# Altium integrated library Capacitor - Aluminium TH.IntLib: 4591 symbols (part 17 of 68)
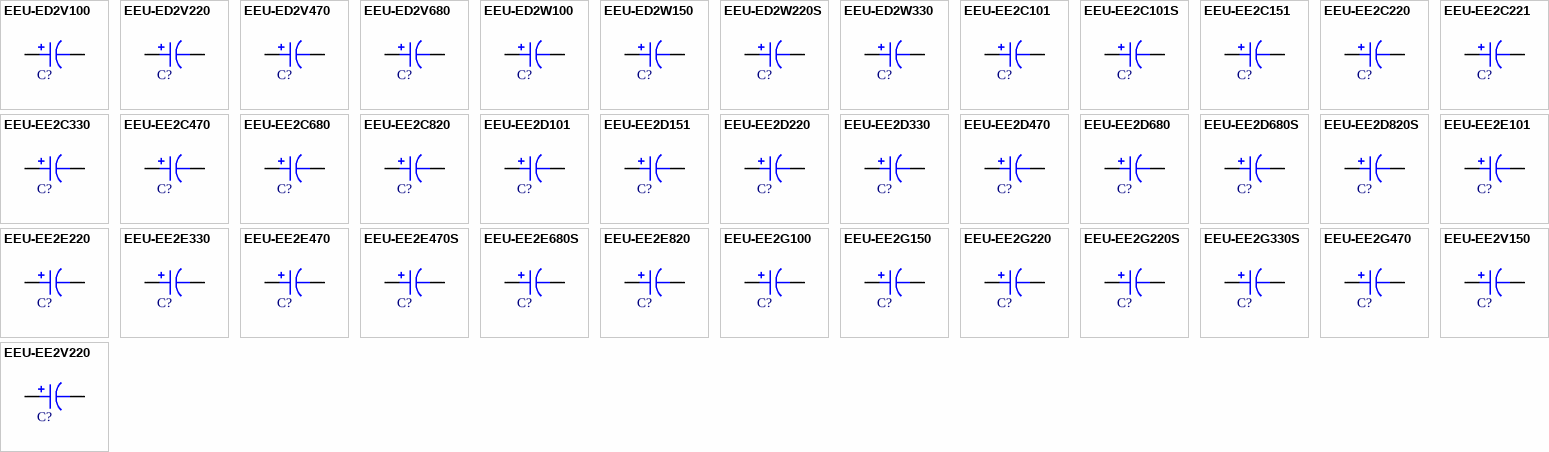
[diagram p130: symbols EEU-ED2V100 to EEU-EE2V220]

## EEU-EE2V220
designator C?, comment 22uF  (value not drawn)
CAP ALUM 22UF 20% 350V RADIAL; Part Number: EEU-EE2V220; Manufacturer: Panasonic Electronic Components; TemperatureRange: -25C ~ 105C; Type: Polar; Ripple Current: 231mA @ 120Hz; Value: 22uF; PartId: 23396; Supplier 1: Digi-Key; Supplier Part Number 1: P13652-ND; ComponentLink1Description: Datasheet; ComponentLink1URL: http://industrial.panasonic.com/www-cgi/jvcr13pz.cgi?E+PZ+3+ABA0113+EEUEE2V220+7+WW; ComponentLink2Description: Digi-Key Listing; ComponentLink2URL: https://www.digikey.com/product-detail/en/panasonic-electronic-components/EEU-EE2V220/P13652-ND/1245981; Tolerance: 20%; Voltage: 350V; Price: 0.96; Device Package: Radial, Can, 12.5mm
footprint CAP AL TH D12.5 L5 H22
pins: 1, 2

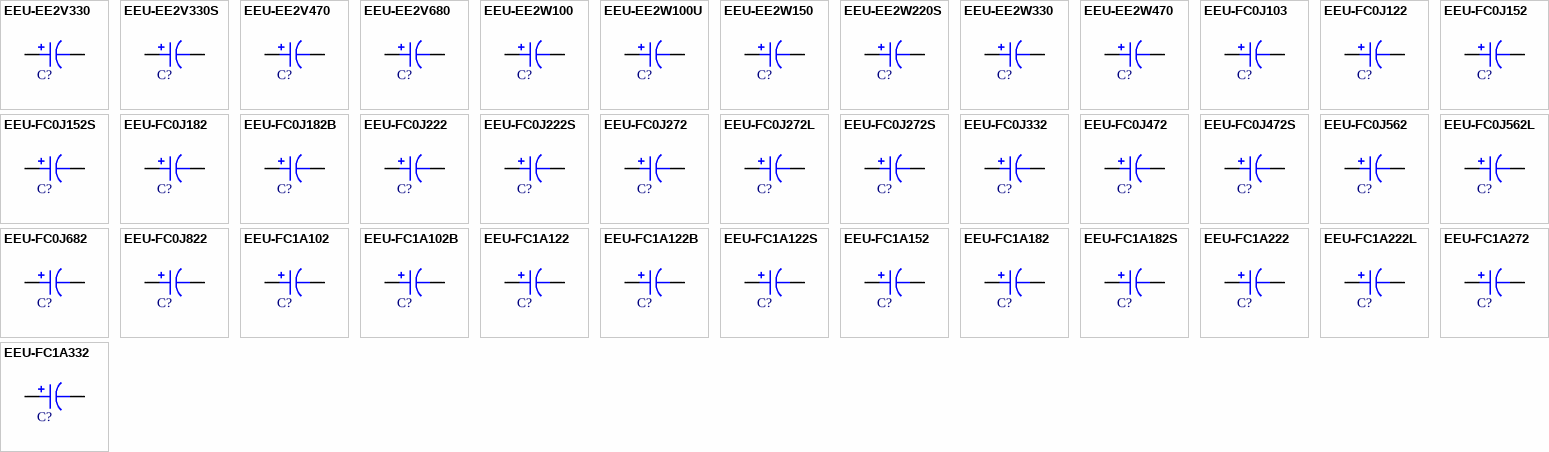
[diagram p27: symbols EEU-EE2V330 to EEU-FC1A332]

## EEU-EE2V330
designator C?, comment 33uF  (value not drawn)
CAP ALUM 33UF 20% 350V RADIAL; Part Number: EEU-EE2V330; Manufacturer: Panasonic Electronic Components; TemperatureRange: -25C ~ 105C; Type: Polar; Ripple Current: 276.5mA @ 120Hz; Value: 33uF; PartId: 24077; Supplier 1: Digi-Key; Supplier Part Number 1: P13653-ND; ComponentLink1Description: Datasheet; ComponentLink1URL: http://industrial.panasonic.com/www-cgi/jvcr13pz.cgi?E+PZ+3+ABA0113+EEUEE2V330+7+WW; ComponentLink2Description: Digi-Key Listing; ComponentLink2URL: https://www.digikey.com/product-detail/en/panasonic-electronic-components/EEU-EE2V330/P13653-ND/1245982; Tolerance: 20%; Voltage: 350V; Price: 1.21; Device Package: Radial, Can, 12.5mm
footprint CAP AL TH D12.5 L5 H27
pins: 1, 2

## EEU-EE2V330S
designator C?, comment 33uF  (value not drawn)
CAP ALUM 33UF 20% 350V RADIAL; Part Number: EEU-EE2V330S; Manufacturer: Panasonic Electronic Components; TemperatureRange: -25C ~ 105C; Type: Polar; Ripple Current: 315mA @ 120Hz; Value: 33uF; PartId: 26460; Supplier 1: Digi-Key; Supplier Part Number 1: P13654-ND; ComponentLink1Description: Datasheet; ComponentLink1URL: http://industrial.panasonic.com/www-cgi/jvcr13pz.cgi?E+PZ+3+ABA0113+EEUEE2V330S+7+WW; ComponentLink2Description: Digi-Key Listing; ComponentLink2URL: https://www.digikey.com/product-detail/en/panasonic-electronic-components/EEU-EE2V330S/P13654-ND/1245983; Tolerance: 20%; Voltage: 350V; Price: 1.54; Device Package: Radial, Can, 16mm
footprint CAP AL TH D16 L7.5 H22
pins: 1, 2

## EEU-EE2V470
designator C?, comment 47uF  (value not drawn)
CAP ALUM 47UF 20% 350V RADIAL; Part Number: EEU-EE2V470; Manufacturer: Panasonic Electronic Components; TemperatureRange: -25C ~ 105C; Type: Polar; Ripple Current: 374.5mA @ 120Hz; Value: 47uF; PartId: 26927; Supplier 1: Digi-Key; Supplier Part Number 1: P13655-ND; ComponentLink1Description: Datasheet; ComponentLink1URL: http://industrial.panasonic.com/www-cgi/jvcr13pz.cgi?E+PZ+3+ABA0113+EEUEE2V470+7+WW; ComponentLink2Description: Digi-Key Listing; ComponentLink2URL: https://www.digikey.com/product-detail/en/panasonic-electronic-components/EEU-EE2V470/P13655-ND/1245984; Tolerance: 20%; Voltage: 350V; Price: 1.76; Device Package: Radial, Can, 16mm
footprint CAP AL TH D16 L7.5 H27
pins: 1, 2

## EEU-EE2V680
designator C?, comment 68uF  (value not drawn)
CAP ALUM 68UF 20% 350V RADIAL; Part Number: EEU-EE2V680; Manufacturer: Panasonic Electronic Components; TemperatureRange: -25C ~ 105C; Type: Polar; Ripple Current: 535.5mA @ 120Hz; Value: 68uF; PartId: 27195; Supplier 1: Digi-Key; Supplier Part Number 1: P13657-ND; ComponentLink1Description: Datasheet; ComponentLink1URL: http://industrial.panasonic.com/www-cgi/jvcr13pz.cgi?E+PZ+3+ABA0113+EEUEE2V680+7+WW; ComponentLink2Description: Digi-Key Listing; ComponentLink2URL: https://www.digikey.com/product-detail/en/panasonic-electronic-components/EEU-EE2V680/P13657-ND/1245986; Tolerance: 20%; Voltage: 350V; Price: 2.06; Device Package: Radial, Can, 16mm
footprint CAP AL TH D16 L7.5 H33.5
pins: 1, 2

## EEU-EE2W100
designator C?, comment 10uF  (value not drawn)
CAP ALUM 10UF 20% 450V RADIAL; Part Number: EEU-EE2W100; Manufacturer: Panasonic Electronic Components; TemperatureRange: -25C ~ 105C; Type: Polar; Ripple Current: 171.5mA @ 120Hz; Value: 10uF; PartId: 23392; Supplier 1: Digi-Key; Supplier Part Number 1: P13672-ND; ComponentLink1Description: Datasheet; ComponentLink1URL: http://industrial.panasonic.com/www-cgi/jvcr13pz.cgi?E+PZ+3+ABA0113+EEUEE2W100+7+WW; ComponentLink2Description: Digi-Key Listing; ComponentLink2URL: https://www.digikey.com/product-detail/en/panasonic-electronic-components/EEU-EE2W100/P13672-ND/1246001; Tolerance: 20%; Voltage: 450V; Price: 0.96; Device Package: Radial, Can, 12.5mm
footprint CAP AL TH D12.5 L5 H22
pins: 1, 2

## EEU-EE2W100U
designator C?, comment 10uF  (value not drawn)
CAP ALUM 10UF 20% 450V RADIAL; Part Number: EEU-EE2W100U; Manufacturer: Panasonic Electronic Components; TemperatureRange: -25C ~ 105C; Type: Polar; Ripple Current: 115.5mA @ 120Hz; Value: 10uF; PartId: 25947; Supplier 1: Digi-Key; Supplier Part Number 1: P13671-ND; ComponentLink1Description: Datasheet; ComponentLink1URL: http://industrial.panasonic.com/www-cgi/jvcr13pz.cgi?E+PZ+3+ABA0113+EEUEE2W100U+7+WW; ComponentLink2Description: Digi-Key Listing; ComponentLink2URL: https://www.digikey.com/product-detail/en/panasonic-electronic-components/EEU-EE2W100U/P13671-ND/1246000; Tolerance: 20%; Voltage: 450V; Price: 0.76; Device Package: Radial, Can, 10mm
footprint CAP AL TH D10 L5 H22
pins: 1, 2

## EEU-EE2W150
designator C?, comment 15uF  (value not drawn)
CAP ALUM 15UF 20% 450V RADIAL; Part Number: EEU-EE2W150; Manufacturer: Panasonic Electronic Components; TemperatureRange: -25C ~ 105C; Type: Polar; Ripple Current: 273mA @ 120Hz; Value: 15uF; PartId: 24074; Supplier 1: Digi-Key; Supplier Part Number 1: P13673-ND; ComponentLink1Description: Datasheet; ComponentLink1URL: http://industrial.panasonic.com/www-cgi/jvcr13pz.cgi?E+PZ+3+ABA0113+EEUEE2W150+7+WW; ComponentLink2Description: Digi-Key Listing; ComponentLink2URL: https://www.digikey.com/product-detail/en/panasonic-electronic-components/EEU-EE2W150/P13673-ND/1246002; Tolerance: 20%; Voltage: 450V; Price: 1.21; Device Package: Radial, Can, 12.5mm
footprint CAP AL TH D12.5 L5 H27
pins: 1, 2

## EEU-EE2W220S
designator C?, comment 22uF  (value not drawn)
CAP ALUM 22UF 20% 450V RADIAL; Part Number: EEU-EE2W220S; Manufacturer: Panasonic Electronic Components; TemperatureRange: -25C ~ 105C; Type: Polar; Ripple Current: 330.8mA @ 120Hz; Value: 22uF; PartId: 26455; Supplier 1: Digi-Key; Supplier Part Number 1: P13674-ND; ComponentLink1Description: Datasheet; ComponentLink1URL: http://industrial.panasonic.com/www-cgi/jvcr13pz.cgi?E+PZ+3+ABA0113+EEUEE2W220S+7+WW; ComponentLink2Description: Digi-Key Listing; ComponentLink2URL: https://www.digikey.com/product-detail/en/panasonic-electronic-components/EEU-EE2W220S/P13674-ND/1246003; Tolerance: 20%; Voltage: 450V; Price: 1.54; Device Package: Radial, Can, 16mm
footprint CAP AL TH D16 L7.5 H22
pins: 1, 2

## EEU-EE2W330
designator C?, comment 33uF  (value not drawn)
CAP ALUM 33UF 20% 450V RADIAL; Part Number: EEU-EE2W330; Manufacturer: Panasonic Electronic Components; TemperatureRange: -25C ~ 105C; Type: Polar; Ripple Current: 350mA @ 120Hz; Value: 33uF; PartId: 26940; Supplier 1: Digi-Key; Supplier Part Number 1: P13675-ND; ComponentLink1Description: Datasheet; ComponentLink1URL: http://industrial.panasonic.com/www-cgi/jvcr13pz.cgi?E+PZ+3+ABA0113+EEUEE2W330+7+WW; ComponentLink2Description: Digi-Key Listing; ComponentLink2URL: https://www.digikey.com/product-detail/en/panasonic-electronic-components/EEU-EE2W330/P13675-ND/1246004; Tolerance: 20%; Voltage: 450V; Price: 1.86; Device Package: Radial, Can, 16mm
footprint CAP AL TH D16 L7.5 H27
pins: 1, 2

## EEU-EE2W470
designator C?, comment 47uF  (value not drawn)
CAP ALUM 47UF 20% 450V RADIAL; Part Number: EEU-EE2W470; Manufacturer: Panasonic Electronic Components; TemperatureRange: -25C ~ 105C; Type: Polar; Ripple Current: 420mA @ 120Hz; Value: 47uF; PartId: 27191; Supplier 1: Digi-Key; Supplier Part Number 1: P13677-ND; ComponentLink1Description: Datasheet; ComponentLink1URL: http://industrial.panasonic.com/www-cgi/jvcr13pz.cgi?E+PZ+3+ABA0113+EEUEE2W470+7+WW; ComponentLink2Description: Digi-Key Listing; ComponentLink2URL: https://www.digikey.com/product-detail/en/panasonic-electronic-components/EEU-EE2W470/P13677-ND/1246006; Tolerance: 20%; Voltage: 450V; Price: 2.04; Device Package: Radial, Can, 16mm
footprint CAP AL TH D16 L7.5 H33.5
pins: 1, 2

## EEU-FC0J103
designator C?, comment 10000uF  (value not drawn)
CAP ALUM 10000UF 20% 6.3V RADIAL; Part Number: EEU-FC0J103; Manufacturer: Panasonic Electronic Components; TemperatureRange: -55C ~ 105C; Type: Polar; Ripple Current: 2.678A @ 120Hz; Impedance: 16 mOhm; Value: 10000uF; PartId: 27365; Supplier 1: Digi-Key; Supplier Part Number 1: P10215-ND; ComponentLink1Description: Datasheet; ComponentLink1URL: http://industrial.panasonic.com/www-cgi/jvcr13pz.cgi?E+PZ+3+ABA0022+EEUFC0J103+7+WW; ComponentLink2Description: Digi-Key Listing; ComponentLink2URL: https://www.digikey.com/product-detail/en/panasonic-electronic-components/EEU-FC0J103/P10215-ND/266225; Tolerance: 20%; Voltage: 6.3V; Price: 1.79; Device Package: Radial, Can, 16mm
footprint CAP AL TH D16 L7.5 H37
pins: 1, 2

## EEU-FC0J122
designator C?, comment 1200uF  (value not drawn)
CAP ALUM 1200UF 20% 6.3V RADIAL; Part Number: EEU-FC0J122; Manufacturer: Panasonic Electronic Components; TemperatureRange: -55C ~ 105C; Type: Polar; Ripple Current: 840mA @ 120Hz; Impedance: 68 mOhm; Value: 1200uF; PartId: 25331; Supplier 1: Digi-Key; Supplier Part Number 1: P10201-ND; ComponentLink1Description: Datasheet; ComponentLink1URL: http://industrial.panasonic.com/www-cgi/jvcr13pz.cgi?E+PZ+3+ABA0022+EEUFC0J122+7+WW; ComponentLink2Description: Digi-Key Listing; ComponentLink2URL: https://www.digikey.com/product-detail/en/panasonic-electronic-components/EEU-FC0J122/P10201-ND/266211; Tolerance: 20%; Voltage: 6.3V; Price: 0.67; Device Package: Radial, Can, 10mm
footprint CAP AL TH D10 L5 H17.5
pins: 1, 2

## EEU-FC0J152
designator C?, comment 1500uF  (value not drawn)
CAP ALUM 1500UF 20% 6.3V RADIAL; Part Number: EEU-FC0J152; Manufacturer: Panasonic Electronic Components; TemperatureRange: -55C ~ 105C; Type: Polar; Ripple Current: 976mA @ 120Hz; Impedance: 52 mOhm; Value: 1500uF; PartId: 25577; Supplier 1: Digi-Key; Supplier Part Number 1: P10202-ND; ComponentLink1Description: Datasheet; ComponentLink1URL: http://industrial.panasonic.com/www-cgi/jvcr13pz.cgi?E+PZ+3+ABA0022+EEUFC0J152+7+WW; ComponentLink2Description: Digi-Key Listing; ComponentLink2URL: https://www.digikey.com/product-detail/en/panasonic-electronic-components/EEU-FC0J152/P10202-ND/266212; Tolerance: 20%; Voltage: 6.3V; Price: 0.66; Device Package: Radial, Can, 10mm
footprint CAP AL TH D10 L5 H22
pins: 1, 2

## EEU-FC0J152S
designator C?, comment 1500uF  (value not drawn)
CAP ALUM 1500UF 20% 6.3V RADIAL; Part Number: EEU-FC0J152S; Manufacturer: Panasonic Electronic Components; TemperatureRange: -55C ~ 105C; Type: Polar; Ripple Current: 964mA @ 120Hz; Impedance: 65 mOhm; Value: 1500uF; PartId: 22723; Supplier 1: Digi-Key; Supplier Part Number 1: P10203-ND; ComponentLink1Description: Datasheet; ComponentLink1URL: http://industrial.panasonic.com/www-cgi/jvcr13pz.cgi?E+PZ+3+ABA0022+EEUFC0J152S+7+WW; ComponentLink2Description: Digi-Key Listing; ComponentLink2URL: https://www.digikey.com/product-detail/en/panasonic-electronic-components/EEU-FC0J152S/P10203-ND/266213; Tolerance: 20%; Voltage: 6.3V; Price: 0; Device Package: Radial, Can, 12.5mm
footprint CAP AL TH D12.5 L5 H15
pins: 1, 2

## EEU-FC0J182
designator C?, comment 1800uF  (value not drawn)
CAP ALUM 1800UF 20% 6.3V RADIAL; Part Number: EEU-FC0J182; Manufacturer: Panasonic Electronic Components; TemperatureRange: -55C ~ 105C; Type: Polar; Ripple Current: 1.152A @ 120Hz; Impedance: 45 mOhm; Value: 1800uF; PartId: 26092; Supplier 1: Digi-Key; Supplier Part Number 1: P12707-ND; ComponentLink1Description: Datasheet; ComponentLink1URL: http://industrial.panasonic.com/www-cgi/jvcr13pz.cgi?E+PZ+3+ABA0022+EEUFC0J182+7+WW; ComponentLink2Description: Digi-Key Listing; ComponentLink2URL: https://www.digikey.com/product-detail/en/panasonic-electronic-components/EEU-FC0J182/P12707-ND/356077; Tolerance: 20%; Voltage: 6.3V; Price: 0.74; Device Package: Radial, Can, 10mm
footprint CAP AL TH D10 L5 H30
pins: 1, 2

## EEU-FC0J182B
designator C?, comment 1800uF  (value not drawn)
CAP ALUM 1800UF 20% 6.3V RADIAL; Part Number: EEU-FC0J182B; Manufacturer: Panasonic Electronic Components; TemperatureRange: -55C ~ 105C; Type: Polar; Ripple Current: 1.152A @ 120Hz; Impedance: 45 mOhm; Value: 1800uF; PartId: 26011; Supplier 1: Digi-Key; Supplier Part Number 1: P19629TB-ND; ComponentLink1Description: Datasheet; ComponentLink1URL: http://industrial.panasonic.com/www-cgi/jvcr13pz.cgi?E+PZ+3+ABA0022+EEUFC0J182B+7+WW; ComponentLink2Description: Digi-Key Listing; ComponentLink2URL: https://www.digikey.com/product-detail/en/panasonic-electronic-components/EEU-FC0J182B/P19629TB-ND/2689503; Tolerance: 20%; Voltage: 6.3V; Price: 0.295; Device Package: Radial, Can, 10mm
footprint CAP AL TH D10 L5 H30
pins: 1, 2

## EEU-FC0J222
designator C?, comment 2200uF  (value not drawn)
CAP ALUM 2200UF 20% 6.3V RADIAL; Part Number: EEU-FC0J222; Manufacturer: Panasonic Electronic Components; TemperatureRange: -55C ~ 105C; Type: Polar; Ripple Current: 1.152A @ 120Hz; Impedance: 45 mOhm; Value: 2200uF; PartId: 26094; Supplier 1: Digi-Key; Supplier Part Number 1: P10204-ND; ComponentLink1Description: Datasheet; ComponentLink1URL: http://industrial.panasonic.com/www-cgi/jvcr13pz.cgi?E+PZ+3+ABA0022+EEUFC0J222+7+WW; ComponentLink2Description: Digi-Key Listing; ComponentLink2URL: https://www.digikey.com/product-detail/en/panasonic-electronic-components/EEU-FC0J222/P10204-ND/266214; Tolerance: 20%; Voltage: 6.3V; Price: 0.74; Device Package: Radial, Can, 10mm
footprint CAP AL TH D10 L5 H30
pins: 1, 2

## EEU-FC0J222S
designator C?, comment 2200uF  (value not drawn)
CAP ALUM 2200UF 20% 6.3V RADIAL; Part Number: EEU-FC0J222S; Manufacturer: Panasonic Electronic Components; TemperatureRange: -55C ~ 105C; Type: Polar; Ripple Current: 1.352A @ 120Hz; Impedance: 43 mOhm; Value: 2200uF; PartId: 26220; Supplier 1: Digi-Key; Supplier Part Number 1: P10205-ND; ComponentLink1Description: Datasheet; ComponentLink1URL: http://industrial.panasonic.com/www-cgi/jvcr13pz.cgi?E+PZ+3+ABA0022+EEUFC0J222S+7+WW; ComponentLink2Description: Digi-Key Listing; ComponentLink2URL: https://www.digikey.com/product-detail/en/panasonic-electronic-components/EEU-FC0J222S/P10205-ND/266215; Tolerance: 20%; Voltage: 6.3V; Price: 1.11; Device Package: Radial, Can, 16mm
footprint CAP AL TH D16 L7.5 H16.5
pins: 1, 2

## EEU-FC0J272
designator C?, comment 2700uF  (value not drawn)
CAP ALUM 2700UF 20% 6.3V RADIAL; Part Number: EEU-FC0J272; Manufacturer: Panasonic Electronic Components; TemperatureRange: -55C ~ 105C; Type: Polar; Ripple Current: 1.407A @ 120Hz; Impedance: 38 mOhm; Value: 2700uF; PartId: 22906; Supplier 1: Digi-Key; Supplier Part Number 1: P12709-ND; ComponentLink1Description: Datasheet; ComponentLink1URL: http://industrial.panasonic.com/www-cgi/jvcr13pz.cgi?E+PZ+3+ABA0022+EEUFC0J272+7+WW; ComponentLink2Description: Digi-Key Listing; ComponentLink2URL: https://www.digikey.com/product-detail/en/panasonic-electronic-components/EEU-FC0J272/P12709-ND/356079; Tolerance: 20%; Voltage: 6.3V; Price: 0; Device Package: Radial, Can, 12.5mm
footprint CAP AL TH D12.5 L5 H20
pins: 1, 2

## EEU-FC0J272L
designator C?, comment 2700uF  (value not drawn)
CAP ALUM 2700UF 20% 6.3V RADIAL; Part Number: EEU-FC0J272L; Manufacturer: Panasonic Electronic Components; TemperatureRange: -55C ~ 105C; Type: Polar; Ripple Current: 1.543A @ 120Hz; Impedance: 35 mOhm; Value: 2700uF; PartId: 26136; Supplier 1: Digi-Key; Supplier Part Number 1: P12708-ND; ComponentLink1Description: Datasheet; ComponentLink1URL: http://industrial.panasonic.com/www-cgi/jvcr13pz.cgi?E+PZ+3+ABA0022+EEUFC0J272L+7+WW; ComponentLink2Description: Digi-Key Listing; ComponentLink2URL: https://www.digikey.com/product-detail/en/panasonic-electronic-components/EEU-FC0J272L/P12708-ND/356078; Tolerance: 20%; Voltage: 6.3V; Price: 0.82; Device Package: Radial, Can, 10mm
footprint CAP AL TH D10 L5 H30
pins: 1, 2

## EEU-FC0J272S
designator C?, comment 2700uF  (value not drawn)
CAP ALUM 2700UF 20% 6.3V RADIAL; Part Number: EEU-FC0J272S; Manufacturer: Panasonic Electronic Components; TemperatureRange: -55C ~ 105C; Type: Polar; Ripple Current: 1.437A @ 120Hz; Impedance: 43 mOhm; Value: 2700uF; PartId: 26221; Supplier 1: Digi-Key; Supplier Part Number 1: P11175-ND; ComponentLink1Description: Datasheet; ComponentLink1URL: http://industrial.panasonic.com/www-cgi/jvcr13pz.cgi?E+PZ+3+ABA0022+EEUFC0J272S+7+WW; ComponentLink2Description: Digi-Key Listing; ComponentLink2URL: https://www.digikey.com/product-detail/en/panasonic-electronic-components/EEU-FC0J272S/P11175-ND/356080; Tolerance: 20%; Voltage: 6.3V; Price: 1.11; Device Package: Radial, Can, 16mm
footprint CAP AL TH D16 L7.5 H16.5
pins: 1, 2

## EEU-FC0J332
designator C?, comment 3300uF  (value not drawn)
CAP ALUM 3300UF 20% 6.3V RADIAL; Part Number: EEU-FC0J332; Manufacturer: Panasonic Electronic Components; TemperatureRange: -55C ~ 105C; Type: Polar; Ripple Current: 1.407A @ 120Hz; Impedance: 38 mOhm; Value: 3300uF; PartId: 22908; Supplier 1: Digi-Key; Supplier Part Number 1: P10206-ND; ComponentLink1Description: Datasheet; ComponentLink1URL: http://industrial.panasonic.com/www-cgi/jvcr13pz.cgi?E+PZ+3+ABA0022+EEUFC0J332+7+WW; ComponentLink2Description: Digi-Key Listing; ComponentLink2URL: https://www.digikey.com/product-detail/en/panasonic-electronic-components/EEU-FC0J332/P10206-ND/266216; Tolerance: 20%; Voltage: 6.3V; Price: 0; Device Package: Radial, Can, 12.5mm
footprint CAP AL TH D12.5 L5 H20
pins: 1, 2

## EEU-FC0J472
designator C?, comment 4700uF  (value not drawn)
CAP ALUM 4700UF 20% 6.3V RADIAL; Part Number: EEU-FC0J472; Manufacturer: Panasonic Electronic Components; TemperatureRange: -55C ~ 105C; Type: Polar; Ripple Current: 1.964A @ 120Hz; Impedance: 25 mOhm; Value: 4700uF; PartId: 24219; Supplier 1: Digi-Key; Supplier Part Number 1: P10209-ND; ComponentLink1Description: Datasheet; ComponentLink1URL: http://industrial.panasonic.com/www-cgi/jvcr13pz.cgi?E+PZ+3+ABA0022+EEUFC0J472+7+WW; ComponentLink2Description: Digi-Key Listing; ComponentLink2URL: https://www.digikey.com/product-detail/en/panasonic-electronic-components/EEU-FC0J472/P10209-ND/266219; Tolerance: 20%; Voltage: 6.3V; Price: 0.96; Device Package: Radial, Can, 12.5mm
footprint CAP AL TH D12.5 L5 H35.5
pins: 1, 2

## EEU-FC0J472S
designator C?, comment 4700uF  (value not drawn)
CAP ALUM 4700UF 20% 6.3V RADIAL; Part Number: EEU-FC0J472S; Manufacturer: Panasonic Electronic Components; TemperatureRange: -55C ~ 105C; Type: Polar; Ripple Current: 1.874A @ 120Hz; Impedance: 29 mOhm; Value: 4700uF; PartId: 26301; Supplier 1: Digi-Key; Supplier Part Number 1: P10210-ND; ComponentLink1Description: Datasheet; ComponentLink1URL: http://industrial.panasonic.com/www-cgi/jvcr13pz.cgi?E+PZ+3+ABA0022+EEUFC0J472S+7+WW; ComponentLink2Description: Digi-Key Listing; ComponentLink2URL: https://www.digikey.com/product-detail/en/panasonic-electronic-components/EEU-FC0J472S/P10210-ND/266220; Tolerance: 20%; Voltage: 6.3V; Price: 1.15; Device Package: Radial, Can, 16mm
footprint CAP AL TH D16 L7.5 H20
pins: 1, 2

## EEU-FC0J562
designator C?, comment 5600uF  (value not drawn)
CAP ALUM 5600UF 20% 6.3V RADIAL; Part Number: EEU-FC0J562; Manufacturer: Panasonic Electronic Components; TemperatureRange: -55C ~ 105C; Type: Polar; Ripple Current: 1.874A @ 120Hz; Impedance: 29 mOhm; Value: 5600uF; PartId: 26303; Supplier 1: Digi-Key; Supplier Part Number 1: P11176-ND; ComponentLink1Description: Datasheet; ComponentLink1URL: http://industrial.panasonic.com/www-cgi/jvcr13pz.cgi?E+PZ+3+ABA0022+EEUFC0J562+7+WW; ComponentLink2Description: Digi-Key Listing; ComponentLink2URL: https://www.digikey.com/product-detail/en/panasonic-electronic-components/EEU-FC0J562/P11176-ND/356081; Tolerance: 20%; Voltage: 6.3V; Price: 1.15; Device Package: Radial, Can, 16mm
footprint CAP AL TH D16 L7.5 H20
pins: 1, 2

## EEU-FC0J562L
designator C?, comment 5600uF  (value not drawn)
CAP ALUM 5600UF 20% 6.3V RADIAL; Part Number: EEU-FC0J562L; Manufacturer: Panasonic Electronic Components; TemperatureRange: -55C ~ 105C; Type: Polar; Ripple Current: 2.134A @ 120Hz; Impedance: 22 mOhm; Value: 5600uF; PartId: 24318; Supplier 1: Digi-Key; Supplier Part Number 1: P10211-ND; ComponentLink1Description: Datasheet; ComponentLink1URL: http://industrial.panasonic.com/www-cgi/jvcr13pz.cgi?E+PZ+3+ABA0022+EEUFC0J562L+7+WW; ComponentLink2Description: Digi-Key Listing; ComponentLink2URL: https://www.digikey.com/product-detail/en/panasonic-electronic-components/EEU-FC0J562L/P10211-ND/266221; Tolerance: 20%; Voltage: 6.3V; Price: 1.25; Device Package: Radial, Can, 12.5mm
footprint CAP AL TH D12.5 L5 H35.5
pins: 1, 2

## EEU-FC0J682
designator C?, comment 6800uF  (value not drawn)
CAP ALUM 6800UF 20% 6.3V RADIAL; Part Number: EEU-FC0J682; Manufacturer: Panasonic Electronic Components; TemperatureRange: -55C ~ 105C; Type: Polar; Ripple Current: 2.172A @ 120Hz; Impedance: 22 mOhm; Value: 6800uF; PartId: 26609; Supplier 1: Digi-Key; Supplier Part Number 1: P10213-ND; ComponentLink1Description: Datasheet; ComponentLink1URL: http://industrial.panasonic.com/www-cgi/jvcr13pz.cgi?E+PZ+3+ABA0022+EEUFC0J682+7+WW; ComponentLink2Description: Digi-Key Listing; ComponentLink2URL: https://www.digikey.com/product-detail/en/panasonic-electronic-components/EEU-FC0J682/P10213-ND/266223; Tolerance: 20%; Voltage: 6.3V; Price: 1.37; Device Package: Radial, Can, 16mm
footprint CAP AL TH D16 L7.5 H26.5
pins: 1, 2

## EEU-FC0J822
designator C?, comment 8200uF  (value not drawn)
CAP ALUM 8200UF 20% 6.3V RADIAL; Part Number: EEU-FC0J822; Manufacturer: Panasonic Electronic Components; TemperatureRange: -55C ~ 105C; Type: Polar; Ripple Current: 2.559A @ 120Hz; Impedance: 18 mOhm; Value: 8200uF; PartId: 27110; Supplier 1: Digi-Key; Supplier Part Number 1: P11177-ND; ComponentLink1Description: Datasheet; ComponentLink1URL: http://industrial.panasonic.com/www-cgi/jvcr13pz.cgi?E+PZ+3+ABA0022+EEUFC0J822+7+WW; ComponentLink2Description: Digi-Key Listing; ComponentLink2URL: https://www.digikey.com/product-detail/en/panasonic-electronic-components/EEU-FC0J822/P11177-ND/356082; Tolerance: 20%; Voltage: 6.3V; Price: 1.75; Device Package: Radial, Can, 16mm
footprint CAP AL TH D16 L7.5 H33.5
pins: 1, 2

## EEU-FC1A102
designator C?, comment 1000uF  (value not drawn)
CAP ALUM 1000UF 20% 10V RADIAL; Part Number: EEU-FC1A102; Manufacturer: Panasonic Electronic Components; TemperatureRange: -55C ~ 105C; Type: Polar; Ripple Current: 787.5mA @ 120Hz; Impedance: 68 mOhm; Value: 1000uF; PartId: 25318; Supplier 1: Digi-Key; Supplier Part Number 1: P10225-ND; ComponentLink1Description: Datasheet; ComponentLink1URL: http://industrial.panasonic.com/www-cgi/jvcr13pz.cgi?E+PZ+3+ABA0022+EEUFC1A102+7+WW; ComponentLink2Description: Digi-Key Listing; ComponentLink2URL: https://www.digikey.com/product-detail/en/panasonic-electronic-components/EEU-FC1A102/P10225-ND/266235; Tolerance: 20%; Voltage: 10V; Price: 0.66; Device Package: Radial, Can, 10mm
footprint CAP AL TH D10 L5 H17.5
pins: 1, 2

## EEU-FC1A102B
designator C?, comment 1000uF  (value not drawn)
CAP ALUM 1000UF 20% 10V RADIAL; Part Number: EEU-FC1A102B; Manufacturer: Panasonic Electronic Components; TemperatureRange: -55C ~ 105C; Type: Polar; Ripple Current: 787.5mA @ 120Hz; Impedance: 68 mOhm; Value: 1000uF; PartId: 25069; Supplier 1: Digi-Key; Supplier Part Number 1: P19631TB-ND; ComponentLink1Description: Datasheet; ComponentLink1URL: http://industrial.panasonic.com/www-cgi/jvcr13pz.cgi?E+PZ+3+ABA0022+EEUFC1A102B+7+WW; ComponentLink2Description: Digi-Key Listing; ComponentLink2URL: https://www.digikey.com/product-detail/en/panasonic-electronic-components/EEU-FC1A102B/P19631TB-ND/2689537; Tolerance: 20%; Voltage: 10V; Price: 0.2302; Device Package: Radial, Can, 10mm
footprint CAP AL TH D10 L5 H17.5
pins: 1, 2

## EEU-FC1A122
designator C?, comment 1200uF  (value not drawn)
CAP ALUM 1200UF 20% 10V RADIAL; Part Number: EEU-FC1A122; Manufacturer: Panasonic Electronic Components; TemperatureRange: -55C ~ 105C; Type: Polar; Ripple Current: 976mA @ 120Hz; Impedance: 52 mOhm; Value: 1200uF; PartId: 25572; Supplier 1: Digi-Key; Supplier Part Number 1: P10226-ND; ComponentLink1Description: Datasheet; ComponentLink1URL: http://industrial.panasonic.com/www-cgi/jvcr13pz.cgi?E+PZ+3+ABA0022+EEUFC1A122+7+WW; ComponentLink2Description: Digi-Key Listing; ComponentLink2URL: https://www.digikey.com/product-detail/en/panasonic-electronic-components/EEU-FC1A122/P10226-ND/266236; Tolerance: 20%; Voltage: 10V; Price: 0.66; Device Package: Radial, Can, 10mm
footprint CAP AL TH D10 L5 H22
pins: 1, 2

## EEU-FC1A122B
designator C?, comment 1200uF  (value not drawn)
CAP ALUM 1200UF 20% 10V RADIAL; Part Number: EEU-FC1A122B; Manufacturer: Panasonic Electronic Components; TemperatureRange: -55C ~ 105C; Type: Polar; Ripple Current: 976mA @ 120Hz; Impedance: 52 mOhm; Value: 1200uF; PartId: 25894; Supplier 1: Digi-Key; Supplier Part Number 1: P19482-ND; ComponentLink1Description: Datasheet; ComponentLink1URL: https://industrial.panasonic.com/cdbs/www-data/pdf/RDF0000/ABA0000C59.pdf; ComponentLink2Description: Digi-Key Listing; ComponentLink2URL: https://www.digikey.com/product-detail/en/panasonic-electronic-components/EEU-FC1A122B/P19482-ND/341210; Tolerance: 20%; Voltage: 10V; Price: 0.66; Device Package: Radial, Can, 10mm
footprint CAP AL TH D10 L5 H22
pins: 1, 2

## EEU-FC1A122S
designator C?, comment 1200uF  (value not drawn)
CAP ALUM 1200UF 20% 10V RADIAL; Part Number: EEU-FC1A122S; Manufacturer: Panasonic Electronic Components; TemperatureRange: -55C ~ 105C; Type: Polar; Ripple Current: 964mA @ 120Hz; Impedance: 65 mOhm; Value: 1200uF; PartId: 22722; Supplier 1: Digi-Key; Supplier Part Number 1: P10227-ND; ComponentLink1Description: Datasheet; ComponentLink1URL: http://industrial.panasonic.com/www-cgi/jvcr13pz.cgi?E+PZ+3+ABA0022+EEUFC1A122S+7+WW; ComponentLink2Description: Digi-Key Listing; ComponentLink2URL: https://www.digikey.com/product-detail/en/panasonic-electronic-components/EEU-FC1A122S/P10227-ND/266237; Tolerance: 20%; Voltage: 10V; Price: 0; Device Package: Radial, Can, 12.5mm
footprint CAP AL TH D12.5 L5 H15
pins: 1, 2

## EEU-FC1A152
designator C?, comment 1500uF  (value not drawn)
CAP ALUM 1500UF 20% 10V RADIAL; Part Number: EEU-FC1A152; Manufacturer: Panasonic Electronic Components; TemperatureRange: -55C ~ 105C; Type: Polar; Ripple Current: 1.152A @ 120Hz; Impedance: 45 mOhm; Value: 1500uF; PartId: 26095; Supplier 1: Digi-Key; Supplier Part Number 1: P10228-ND; ComponentLink1Description: Datasheet; ComponentLink1URL: http://industrial.panasonic.com/www-cgi/jvcr13pz.cgi?E+PZ+3+ABA0022+EEUFC1A152+7+WW; ComponentLink2Description: Digi-Key Listing; ComponentLink2URL: https://www.digikey.com/product-detail/en/panasonic-electronic-components/EEU-FC1A152/P10228-ND/266238; Tolerance: 20%; Voltage: 10V; Price: 0.74; Device Package: Radial, Can, 10mm
footprint CAP AL TH D10 L5 H30
pins: 1, 2

## EEU-FC1A182
designator C?, comment 1800uF  (value not drawn)
CAP ALUM 1800UF 20% 10V RADIAL; Part Number: EEU-FC1A182; Manufacturer: Panasonic Electronic Components; TemperatureRange: -55C ~ 105C; Type: Polar; Ripple Current: 1.324A @ 120Hz; Impedance: 38 mOhm; Value: 1800uF; PartId: 22907; Supplier 1: Digi-Key; Supplier Part Number 1: P11188-ND; ComponentLink1Description: Datasheet; ComponentLink1URL: http://industrial.panasonic.com/www-cgi/jvcr13pz.cgi?E+PZ+3+ABA0022+EEUFC1A182+7+WW; ComponentLink2Description: Digi-Key Listing; ComponentLink2URL: https://www.digikey.com/product-detail/en/panasonic-electronic-components/EEU-FC1A182/P11188-ND/356093; Tolerance: 20%; Voltage: 10V; Price: 0; Device Package: Radial, Can, 12.5mm
footprint CAP AL TH D12.5 L5 H20
pins: 1, 2

## EEU-FC1A182S
designator C?, comment 1800uF  (value not drawn)
CAP ALUM 1800UF 20% 10V RADIAL; Part Number: EEU-FC1A182S; Manufacturer: Panasonic Electronic Components; TemperatureRange: -55C ~ 105C; Type: Polar; Ripple Current: 1.352A @ 120Hz; Impedance: 43 mOhm; Value: 1800uF; PartId: 26218; Supplier 1: Digi-Key; Supplier Part Number 1: P10229-ND; ComponentLink1Description: Datasheet; ComponentLink1URL: http://industrial.panasonic.com/www-cgi/jvcr13pz.cgi?E+PZ+3+ABA0022+EEUFC1A182S+7+WW; ComponentLink2Description: Digi-Key Listing; ComponentLink2URL: https://www.digikey.com/product-detail/en/panasonic-electronic-components/EEU-FC1A182S/P10229-ND/266239; Tolerance: 20%; Voltage: 10V; Price: 1.11; Device Package: Radial, Can, 16mm
footprint CAP AL TH D16 L7.5 H16.5
pins: 1, 2

## EEU-FC1A222
designator C?, comment 2200uF  (value not drawn)
CAP ALUM 2200UF 20% 10V RADIAL; Part Number: EEU-FC1A222; Manufacturer: Panasonic Electronic Components; TemperatureRange: -55C ~ 105C; Type: Polar; Ripple Current: 1.324A @ 120Hz; Impedance: 38 mOhm; Value: 2200uF; PartId: 22888; Supplier 1: Digi-Key; Supplier Part Number 1: P10230-ND; ComponentLink1Description: Datasheet; ComponentLink1URL: http://industrial.panasonic.com/www-cgi/jvcr13pz.cgi?E+PZ+3+ABA0022+EEUFC1A222+7+WW; ComponentLink2Description: Digi-Key Listing; ComponentLink2URL: https://www.digikey.com/product-detail/en/panasonic-electronic-components/EEU-FC1A222/P10230-ND/266240; Tolerance: 20%; Voltage: 10V; Price: 0; Device Package: Radial, Can, 12.5mm
footprint CAP AL TH D12.5 L5 H20
pins: 1, 2

## EEU-FC1A222L
designator C?, comment 2200uF  (value not drawn)
CAP ALUM 2200UF 20% 10V RADIAL; Part Number: EEU-FC1A222L; Manufacturer: Panasonic Electronic Components; TemperatureRange: -55C ~ 105C; Type: Polar; Ripple Current: 1.452A @ 120Hz; Impedance: 35 mOhm; Value: 2200uF; PartId: 26121; Supplier 1: Digi-Key; Supplier Part Number 1: P11189-ND; ComponentLink1Description: Datasheet; ComponentLink1URL: http://industrial.panasonic.com/www-cgi/jvcr13pz.cgi?E+PZ+3+ABA0022+EEUFC1A222L+7+WW; ComponentLink2Description: Digi-Key Listing; ComponentLink2URL: https://www.digikey.com/product-detail/en/panasonic-electronic-components/EEU-FC1A222L/P11189-ND/356094; Tolerance: 20%; Voltage: 10V; Price: 0.78; Device Package: Radial, Can, 10mm
footprint CAP AL TH D10 L5 H30
pins: 1, 2

## EEU-FC1A272
designator C?, comment 2700uF  (value not drawn)
CAP ALUM 2700UF 20% 10V RADIAL; Part Number: EEU-FC1A272; Manufacturer: Panasonic Electronic Components; TemperatureRange: -55C ~ 105C; Type: Polar; Ripple Current: 1.653A @ 120Hz; Impedance: 30 mOhm; Value: 2700uF; PartId: 23602; Supplier 1: Digi-Key; Supplier Part Number 1: P10231-ND; ComponentLink1Description: Datasheet; ComponentLink1URL: http://industrial.panasonic.com/www-cgi/jvcr13pz.cgi?E+PZ+3+ABA0022+EEUFC1A272+7+WW; ComponentLink2Description: Digi-Key Listing; ComponentLink2URL: https://www.digikey.com/product-detail/en/panasonic-electronic-components/EEU-FC1A272/P10231-ND/266241; Tolerance: 20%; Voltage: 10V; Price: 1.05; Device Package: Radial, Can, 12.5mm
footprint CAP AL TH D12.5 L5 H25
pins: 1, 2

## EEU-FC1A332
designator C?, comment 3300uF  (value not drawn)
CAP ALUM 3300UF 20% 10V RADIAL; Part Number: EEU-FC1A332; Manufacturer: Panasonic Electronic Components; TemperatureRange: -55C ~ 105C; Type: Polar; Ripple Current: 1.964A @ 120Hz; Impedance: 25 mOhm; Value: 3300uF; PartId: 24248; Supplier 1: Digi-Key; Supplier Part Number 1: P10233-ND; ComponentLink1Description: Datasheet; ComponentLink1URL: http://industrial.panasonic.com/www-cgi/jvcr13pz.cgi?E+PZ+3+ABA0022+EEUFC1A332+7+WW; ComponentLink2Description: Digi-Key Listing; ComponentLink2URL: https://www.digikey.com/product-detail/en/panasonic-electronic-components/EEU-FC1A332/P10233-ND/266243; Tolerance: 20%; Voltage: 10V; Price: 1.02; Device Package: Radial, Can, 12.5mm
footprint CAP AL TH D12.5 L5 H35.5
pins: 1, 2

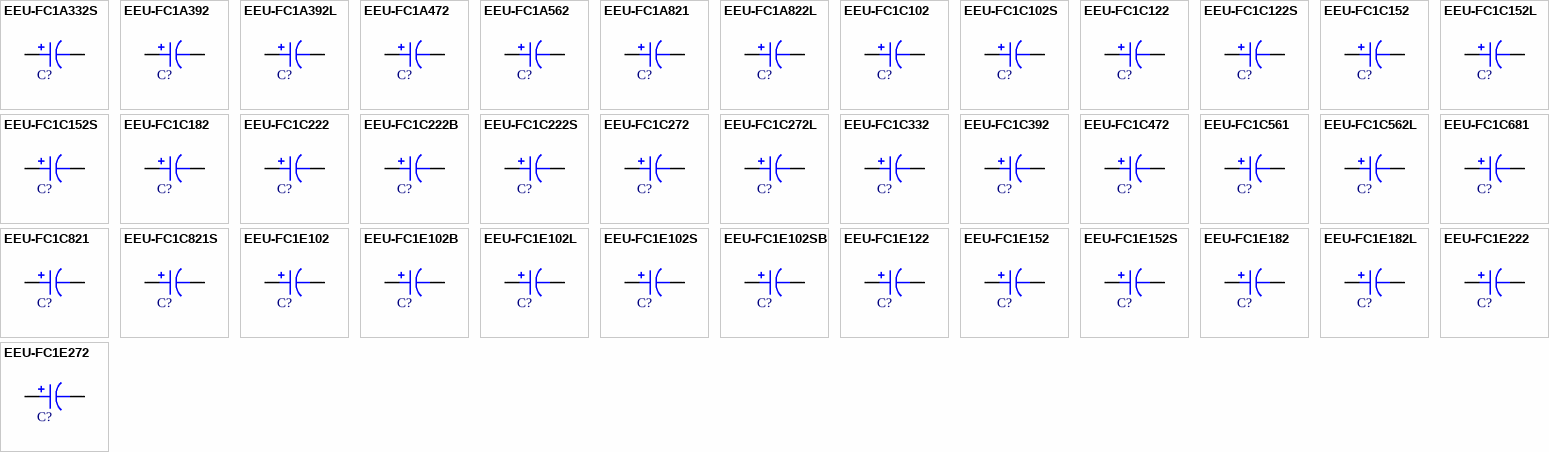
[diagram p28: symbols EEU-FC1A332S to EEU-FC1E272]

## EEU-FC1A332S
designator C?, comment 3300uF  (value not drawn)
CAP ALUM 3300UF 20% 10V RADIAL; Part Number: EEU-FC1A332S; Manufacturer: Panasonic Electronic Components; TemperatureRange: -55C ~ 105C; Type: Polar; Ripple Current: 1.874A @ 120Hz; Impedance: 29 mOhm; Value: 3300uF; PartId: 26304; Supplier 1: Digi-Key; Supplier Part Number 1: P10234-ND; ComponentLink1Description: Datasheet; ComponentLink1URL: http://industrial.panasonic.com/www-cgi/jvcr13pz.cgi?E+PZ+3+ABA0022+EEUFC1A332S+7+WW; ComponentLink2Description: Digi-Key Listing; ComponentLink2URL: https://www.digikey.com/product-detail/en/panasonic-electronic-components/EEU-FC1A332S/P10234-ND/266244; Tolerance: 20%; Voltage: 10V; Price: 1.15; Device Package: Radial, Can, 16mm
footprint CAP AL TH D16 L7.5 H20
pins: 1, 2

## EEU-FC1A392
designator C?, comment 3900uF  (value not drawn)
CAP ALUM 3900UF 20% 10V RADIAL; Part Number: EEU-FC1A392; Manufacturer: Panasonic Electronic Components; TemperatureRange: -55C ~ 105C; Type: Polar; Ripple Current: 1.874A @ 120Hz; Impedance: 29 mOhm; Value: 3900uF; PartId: 26308; Supplier 1: Digi-Key; Supplier Part Number 1: P11190-ND; ComponentLink1Description: Datasheet; ComponentLink1URL: http://industrial.panasonic.com/www-cgi/jvcr13pz.cgi?E+PZ+3+ABA0022+EEUFC1A392+7+WW; ComponentLink2Description: Digi-Key Listing; ComponentLink2URL: https://www.digikey.com/product-detail/en/panasonic-electronic-components/EEU-FC1A392/P11190-ND/356095; Tolerance: 20%; Voltage: 10V; Price: 1.15; Device Package: Radial, Can, 16mm
footprint CAP AL TH D16 L7.5 H20
pins: 1, 2

## EEU-FC1A392L
designator C?, comment 3900uF  (value not drawn)
CAP ALUM 3900UF 20% 10V RADIAL; Part Number: EEU-FC1A392L; Manufacturer: Panasonic Electronic Components; TemperatureRange: -55C ~ 105C; Type: Polar; Ripple Current: 2.134A @ 120Hz; Impedance: 22 mOhm; Value: 3900uF; PartId: 24317; Supplier 1: Digi-Key; Supplier Part Number 1: P10235-ND; ComponentLink1Description: Datasheet; ComponentLink1URL: http://industrial.panasonic.com/www-cgi/jvcr13pz.cgi?E+PZ+3+ABA0022+EEUFC1A392L+7+WW; ComponentLink2Description: Digi-Key Listing; ComponentLink2URL: https://www.digikey.com/product-detail/en/panasonic-electronic-components/EEU-FC1A392L/P10235-ND/266245; Tolerance: 20%; Voltage: 10V; Price: 1.25; Device Package: Radial, Can, 12.5mm
footprint CAP AL TH D12.5 L5 H35.5
pins: 1, 2

## EEU-FC1A472
designator C?, comment 4700uF  (value not drawn)
CAP ALUM 4700UF 20% 10V RADIAL; Part Number: EEU-FC1A472; Manufacturer: Panasonic Electronic Components; TemperatureRange: -55C ~ 105C; Type: Polar; Ripple Current: 2.168A @ 120Hz; Impedance: 22 mOhm; Value: 4700uF; PartId: 26605; Supplier 1: Digi-Key; Supplier Part Number 1: P10237-ND; ComponentLink1Description: Datasheet; ComponentLink1URL: http://industrial.panasonic.com/www-cgi/jvcr13pz.cgi?E+PZ+3+ABA0022+EEUFC1A472+7+WW; ComponentLink2Description: Digi-Key Listing; ComponentLink2URL: https://www.digikey.com/product-detail/en/panasonic-electronic-components/EEU-FC1A472/P10237-ND/266247; Tolerance: 20%; Voltage: 10V; Price: 1.37; Device Package: Radial, Can, 16mm
footprint CAP AL TH D16 L7.5 H26.5
pins: 1, 2

## EEU-FC1A562
designator C?, comment 5600uF  (value not drawn)
CAP ALUM 5600UF 20% 10V RADIAL; Part Number: EEU-FC1A562; Manufacturer: Panasonic Electronic Components; TemperatureRange: -55C ~ 105C; Type: Polar; Ripple Current: 2.172A @ 120Hz; Impedance: 22 mOhm; Value: 5600uF; PartId: 26607; Supplier 1: Digi-Key; Supplier Part Number 1: P11191-ND; ComponentLink1Description: Datasheet; ComponentLink1URL: http://industrial.panasonic.com/www-cgi/jvcr13pz.cgi?E+PZ+3+ABA0022+EEUFC1A562+7+WW; ComponentLink2Description: Digi-Key Listing; ComponentLink2URL: https://www.digikey.com/product-detail/en/panasonic-electronic-components/EEU-FC1A562/P11191-ND/356096; Tolerance: 20%; Voltage: 10V; Price: 1.37; Device Package: Radial, Can, 16mm
footprint CAP AL TH D16 L7.5 H26.5
pins: 1, 2

## EEU-FC1A821
designator C?, comment 820uF  (value not drawn)
CAP ALUM 820UF 20% 10V RADIAL; Part Number: EEU-FC1A821; Manufacturer: Panasonic Electronic Components; TemperatureRange: -55C ~ 105C; Type: Polar; Ripple Current: 787.5mA @ 120Hz; Impedance: 68 mOhm; Value: 820uF; PartId: 25338; Supplier 1: Digi-Key; Supplier Part Number 1: P11187-ND; ComponentLink1Description: Datasheet; ComponentLink1URL: http://industrial.panasonic.com/www-cgi/jvcr13pz.cgi?E+PZ+3+ABA0022+EEUFC1A821+7+WW; ComponentLink2Description: Digi-Key Listing; ComponentLink2URL: https://www.digikey.com/product-detail/en/panasonic-electronic-components/EEU-FC1A821/P11187-ND/356092; Tolerance: 20%; Voltage: 10V; Price: 0.67; Device Package: Radial, Can, 10mm
footprint CAP AL TH D10 L5 H17.5
pins: 1, 2

## EEU-FC1A822L
designator C?, comment 8200uF  (value not drawn)
CAP ALUM 8200UF 20% 10V RADIAL; Part Number: EEU-FC1A822L; Manufacturer: Panasonic Electronic Components; TemperatureRange: -55C ~ 105C; Type: Polar; Ripple Current: 2.678A @ 120Hz; Impedance: 16 mOhm; Value: 8200uF; PartId: 27362; Supplier 1: Digi-Key; Supplier Part Number 1: P11192-ND; ComponentLink1Description: Datasheet; ComponentLink1URL: http://industrial.panasonic.com/www-cgi/jvcr13pz.cgi?E+PZ+3+ABA0022+EEUFC1A822L+7+WW; ComponentLink2Description: Digi-Key Listing; ComponentLink2URL: https://www.digikey.com/product-detail/en/panasonic-electronic-components/EEU-FC1A822L/P11192-ND/356097; Tolerance: 20%; Voltage: 10V; Price: 1.79; Device Package: Radial, Can, 16mm
footprint CAP AL TH D16 L7.5 H37
pins: 1, 2

## EEU-FC1C102
designator C?, comment 1000uF  (value not drawn)
CAP ALUM 1000UF 20% 16V RADIAL; Part Number: EEU-FC1C102; Manufacturer: Panasonic Electronic Components; TemperatureRange: -55C ~ 105C; Type: Polar; Ripple Current: 1.08A @ 120Hz; Impedance: 45 mOhm; Value: 1000uF; PartId: 26087; Supplier 1: Digi-Key; Supplier Part Number 1: P10253-ND; ComponentLink1Description: Datasheet; ComponentLink1URL: http://industrial.panasonic.com/www-cgi/jvcr13pz.cgi?E+PZ+3+ABA0022+EEUFC1C102+7+WW; ComponentLink2Description: Digi-Key Listing; ComponentLink2URL: https://www.digikey.com/product-detail/en/panasonic-electronic-components/EEU-FC1C102/P10253-ND/266262; Tolerance: 20%; Voltage: 16V; Price: 0.74; Device Package: Radial, Can, 10mm
footprint CAP AL TH D10 L5 H30
pins: 1, 2

## EEU-FC1C102S
designator C?, comment 1000uF  (value not drawn)
CAP ALUM 1000UF 20% 16V RADIAL; Part Number: EEU-FC1C102S; Manufacturer: Panasonic Electronic Components; TemperatureRange: -55C ~ 105C; Type: Polar; Ripple Current: 915mA @ 120Hz; Impedance: 52 mOhm; Value: 1000uF; PartId: 25576; Supplier 1: Digi-Key; Supplier Part Number 1: P11203-ND; ComponentLink1Description: Datasheet; ComponentLink1URL: http://industrial.panasonic.com/www-cgi/jvcr13pz.cgi?E+PZ+3+ABA0022+EEUFC1C102S+7+WW; ComponentLink2Description: Digi-Key Listing; ComponentLink2URL: https://www.digikey.com/product-detail/en/panasonic-electronic-components/EEU-FC1C102S/P11203-ND/356107; Tolerance: 20%; Voltage: 16V; Price: 0.66; Device Package: Radial, Can, 10mm
footprint CAP AL TH D10 L5 H22
pins: 1, 2

## EEU-FC1C122
designator C?, comment 1200uF  (value not drawn)
CAP ALUM 1200UF 20% 16V RADIAL; Part Number: EEU-FC1C122; Manufacturer: Panasonic Electronic Components; TemperatureRange: -55C ~ 105C; Type: Polar; Ripple Current: 1.152A @ 120Hz; Impedance: 45 mOhm; Value: 1200uF; PartId: 26088; Supplier 1: Digi-Key; Supplier Part Number 1: P11204-ND; ComponentLink1Description: Datasheet; ComponentLink1URL: http://industrial.panasonic.com/www-cgi/jvcr13pz.cgi?E+PZ+3+ABA0022+EEUFC1C122+7+WW; ComponentLink2Description: Digi-Key Listing; ComponentLink2URL: https://www.digikey.com/product-detail/en/panasonic-electronic-components/EEU-FC1C122/P11204-ND/356108; Tolerance: 20%; Voltage: 16V; Price: 0.74; Device Package: Radial, Can, 10mm
footprint CAP AL TH D10 L5 H30
pins: 1, 2

## EEU-FC1C122S
designator C?, comment 1200uF  (value not drawn)
CAP ALUM 1200UF 20% 16V RADIAL; Part Number: EEU-FC1C122S; Manufacturer: Panasonic Electronic Components; TemperatureRange: -55C ~ 105C; Type: Polar; Ripple Current: 1.352A @ 120Hz; Impedance: 43 mOhm; Value: 1200uF; PartId: 26219; Supplier 1: Digi-Key; Supplier Part Number 1: P11205-ND; ComponentLink1Description: Datasheet; ComponentLink1URL: http://industrial.panasonic.com/www-cgi/jvcr13pz.cgi?E+PZ+3+ABA0022+EEUFC1C122S+7+WW; ComponentLink2Description: Digi-Key Listing; ComponentLink2URL: https://www.digikey.com/product-detail/en/panasonic-electronic-components/EEU-FC1C122S/P11205-ND/356109; Tolerance: 20%; Voltage: 16V; Price: 1.11; Device Package: Radial, Can, 16mm
footprint CAP AL TH D16 L7.5 H16.5
pins: 1, 2

## EEU-FC1C152
designator C?, comment 1500uF  (value not drawn)
CAP ALUM 1500UF 20% 16V RADIAL; Part Number: EEU-FC1C152; Manufacturer: Panasonic Electronic Components; TemperatureRange: -55C ~ 105C; Type: Polar; Ripple Current: 1.324A @ 120Hz; Impedance: 38 mOhm; Value: 1500uF; PartId: 22905; Supplier 1: Digi-Key; Supplier Part Number 1: P10254-ND; ComponentLink1Description: Datasheet; ComponentLink1URL: http://industrial.panasonic.com/www-cgi/jvcr13pz.cgi?E+PZ+3+ABA0022+EEUFC1C152+7+WW; ComponentLink2Description: Digi-Key Listing; ComponentLink2URL: https://www.digikey.com/product-detail/en/panasonic-electronic-components/EEU-FC1C152/P10254-ND/266263; Tolerance: 20%; Voltage: 16V; Price: 0; Device Package: Radial, Can, 12.5mm
footprint CAP AL TH D12.5 L5 H20
pins: 1, 2

## EEU-FC1C152L
designator C?, comment 1500uF  (value not drawn)
CAP ALUM 1500UF 20% 16V RADIAL; Part Number: EEU-FC1C152L; Manufacturer: Panasonic Electronic Components; TemperatureRange: -55C ~ 105C; Type: Polar; Ripple Current: 1.452A @ 120Hz; Impedance: 35 mOhm; Value: 1500uF; PartId: 26139; Supplier 1: Digi-Key; Supplier Part Number 1: P10255-ND; ComponentLink1Description: Datasheet; ComponentLink1URL: http://industrial.panasonic.com/www-cgi/jvcr13pz.cgi?E+PZ+3+ABA0022+EEUFC1C152L+7+WW; ComponentLink2Description: Digi-Key Listing; ComponentLink2URL: https://www.digikey.com/product-detail/en/panasonic-electronic-components/EEU-FC1C152L/P10255-ND/266264; Tolerance: 20%; Voltage: 16V; Price: 0.82; Device Package: Radial, Can, 10mm
footprint CAP AL TH D10 L5 H30
pins: 1, 2

## EEU-FC1C152S
designator C?, comment 1500uF  (value not drawn)
CAP ALUM 1500UF 20% 16V RADIAL; Part Number: EEU-FC1C152S; Manufacturer: Panasonic Electronic Components; TemperatureRange: -55C ~ 105C; Type: Polar; Ripple Current: 1.352A @ 120Hz; Impedance: 43 mOhm; Value: 1500uF; PartId: 26222; Supplier 1: Digi-Key; Supplier Part Number 1: P11206-ND; ComponentLink1Description: Datasheet; ComponentLink1URL: http://industrial.panasonic.com/www-cgi/jvcr13pz.cgi?E+PZ+3+ABA0022+EEUFC1C152S+7+WW; ComponentLink2Description: Digi-Key Listing; ComponentLink2URL: https://www.digikey.com/product-detail/en/panasonic-electronic-components/EEU-FC1C152S/P11206-ND/356110; Tolerance: 20%; Voltage: 16V; Price: 1.11; Device Package: Radial, Can, 16mm
footprint CAP AL TH D16 L7.5 H16.5
pins: 1, 2

## EEU-FC1C182
designator C?, comment 1800uF  (value not drawn)
CAP ALUM 1800UF 20% 16V RADIAL; Part Number: EEU-FC1C182; Manufacturer: Panasonic Electronic Components; TemperatureRange: -55C ~ 105C; Type: Polar; Ripple Current: 1.556A @ 120Hz; Impedance: 30 mOhm; Value: 1800uF; PartId: 23604; Supplier 1: Digi-Key; Supplier Part Number 1: P11207-ND; ComponentLink1Description: Datasheet; ComponentLink1URL: http://industrial.panasonic.com/www-cgi/jvcr13pz.cgi?E+PZ+3+ABA0022+EEUFC1C182+7+WW; ComponentLink2Description: Digi-Key Listing; ComponentLink2URL: https://www.digikey.com/product-detail/en/panasonic-electronic-components/EEU-FC1C182/P11207-ND/356111; Tolerance: 20%; Voltage: 16V; Price: 1.05; Device Package: Radial, Can, 12.5mm
footprint CAP AL TH D12.5 L5 H25
pins: 1, 2

## EEU-FC1C222
designator C?, comment 2200uF  (value not drawn)
CAP ALUM 2200UF 20% 16V RADIAL; Part Number: EEU-FC1C222; Manufacturer: Panasonic Electronic Components; TemperatureRange: -55C ~ 105C; Type: Polar; Ripple Current: 1.556A @ 120Hz; Impedance: 30 mOhm; Value: 2200uF; PartId: 23582; Supplier 1: Digi-Key; Supplier Part Number 1: P10257-ND; ComponentLink1Description: Datasheet; ComponentLink1URL: http://industrial.panasonic.com/www-cgi/jvcr13pz.cgi?E+PZ+3+ABA0022+EEUFC1C222+7+WW; ComponentLink2Description: Digi-Key Listing; ComponentLink2URL: https://www.digikey.com/product-detail/en/panasonic-electronic-components/EEU-FC1C222/P10257-ND/266266; Tolerance: 20%; Voltage: 16V; Price: 0.99; Device Package: Radial, Can, 12.5mm
footprint CAP AL TH D12.5 L5 H25
pins: 1, 2

## EEU-FC1C222B
designator C?, comment 2200uF  (value not drawn)
CAP ALUM 2200UF 20% 16V RADIAL; Part Number: EEU-FC1C222B; Manufacturer: Panasonic Electronic Components; TemperatureRange: -55C ~ 105C; Type: Polar; Ripple Current: 1.556A @ 120Hz; Impedance: 30 mOhm; Value: 2200uF; PartId: 23822; Supplier 1: Digi-Key; Supplier Part Number 1: P19634TB-ND; ComponentLink1Description: Datasheet; ComponentLink1URL: http://industrial.panasonic.com/www-cgi/jvcr13pz.cgi?E+PZ+3+ABA0022+EEUFC1C222B+7+WW; ComponentLink2Description: Digi-Key Listing; ComponentLink2URL: https://www.digikey.com/product-detail/en/panasonic-electronic-components/EEU-FC1C222B/P19634TB-ND/2689586; Tolerance: 20%; Voltage: 16V; Price: 0.4401; Device Package: Radial, Can, 12.5mm
footprint CAP AL TH D12.5 L5 H27
pins: 1, 2

## EEU-FC1C222S
designator C?, comment 2200uF  (value not drawn)
CAP ALUM 2200UF 20% 16V RADIAL; Part Number: EEU-FC1C222S; Manufacturer: Panasonic Electronic Components; TemperatureRange: -55C ~ 105C; Type: Polar; Ripple Current: 1.764A @ 120Hz; Impedance: 29 mOhm; Value: 2200uF; PartId: 26295; Supplier 1: Digi-Key; Supplier Part Number 1: P10258-ND; ComponentLink1Description: Datasheet; ComponentLink1URL: http://industrial.panasonic.com/www-cgi/jvcr13pz.cgi?E+PZ+3+ABA0022+EEUFC1C222S+7+WW; ComponentLink2Description: Digi-Key Listing; ComponentLink2URL: https://www.digikey.com/product-detail/en/panasonic-electronic-components/EEU-FC1C222S/P10258-ND/266267; Tolerance: 20%; Voltage: 16V; Price: 1.09; Device Package: Radial, Can, 16mm
footprint CAP AL TH D16 L7.5 H20
pins: 1, 2

## EEU-FC1C272
designator C?, comment 2700uF  (value not drawn)
CAP ALUM 2700UF 20% 16V RADIAL; Part Number: EEU-FC1C272; Manufacturer: Panasonic Electronic Components; TemperatureRange: -55C ~ 105C; Type: Polar; Ripple Current: 1.874A @ 120Hz; Impedance: 29 mOhm; Value: 2700uF; PartId: 26305; Supplier 1: Digi-Key; Supplier Part Number 1: P11208-ND; ComponentLink1Description: Datasheet; ComponentLink1URL: http://industrial.panasonic.com/www-cgi/jvcr13pz.cgi?E+PZ+3+ABA0022+EEUFC1C272+7+WW; ComponentLink2Description: Digi-Key Listing; ComponentLink2URL: https://www.digikey.com/product-detail/en/panasonic-electronic-components/EEU-FC1C272/P11208-ND/356112; Tolerance: 20%; Voltage: 16V; Price: 1.15; Device Package: Radial, Can, 16mm
footprint CAP AL TH D16 L7.5 H20
pins: 1, 2

## EEU-FC1C272L
designator C?, comment 2700uF  (value not drawn)
CAP ALUM 2700UF 20% 16V RADIAL; Part Number: EEU-FC1C272L; Manufacturer: Panasonic Electronic Components; TemperatureRange: -55C ~ 105C; Type: Polar; Ripple Current: 1.964A @ 120Hz; Impedance: 25 mOhm; Value: 2700uF; PartId: 24218; Supplier 1: Digi-Key; Supplier Part Number 1: P10259-ND; ComponentLink1Description: Datasheet; ComponentLink1URL: http://industrial.panasonic.com/www-cgi/jvcr13pz.cgi?E+PZ+3+ABA0022+EEUFC1C272L+7+WW; ComponentLink2Description: Digi-Key Listing; ComponentLink2URL: https://www.digikey.com/product-detail/en/panasonic-electronic-components/EEU-FC1C272L/P10259-ND/266268; Tolerance: 20%; Voltage: 16V; Price: 0.96; Device Package: Radial, Can, 12.5mm
footprint CAP AL TH D12.5 L5 H35.5
pins: 1, 2

## EEU-FC1C332
designator C?, comment 3300uF  (value not drawn)
CAP ALUM 3300UF 20% 16V RADIAL; Part Number: EEU-FC1C332; Manufacturer: Panasonic Electronic Components; TemperatureRange: -55C ~ 105C; Type: Polar; Ripple Current: 2.134A @ 120Hz; Impedance: 22 mOhm; Value: 3300uF; PartId: 24298; Supplier 1: Digi-Key; Supplier Part Number 1: P10260-ND; ComponentLink1Description: Datasheet; ComponentLink1URL: http://industrial.panasonic.com/www-cgi/jvcr13pz.cgi?E+PZ+3+ABA0022+EEUFC1C332+7+WW; ComponentLink2Description: Digi-Key Listing; ComponentLink2URL: https://www.digikey.com/product-detail/en/panasonic-electronic-components/EEU-FC1C332/P10260-ND/266269; Tolerance: 20%; Voltage: 16V; Price: 1.19; Device Package: Radial, Can, 12.5mm
footprint CAP AL TH D12.5 L5 H35.5
pins: 1, 2

## EEU-FC1C392
designator C?, comment 3900uF  (value not drawn)
CAP ALUM 3900UF 20% 16V RADIAL; Part Number: EEU-FC1C392; Manufacturer: Panasonic Electronic Components; TemperatureRange: -55C ~ 105C; Type: Polar; Ripple Current: 2.172A @ 120Hz; Impedance: 22 mOhm; Value: 3900uF; PartId: 26608; Supplier 1: Digi-Key; Supplier Part Number 1: P10262-ND; ComponentLink1Description: Datasheet; ComponentLink1URL: http://industrial.panasonic.com/www-cgi/jvcr13pz.cgi?E+PZ+3+ABA0022+EEUFC1C392+7+WW; ComponentLink2Description: Digi-Key Listing; ComponentLink2URL: https://www.digikey.com/product-detail/en/panasonic-electronic-components/EEU-FC1C392/P10262-ND/266271; Tolerance: 20%; Voltage: 16V; Price: 1.37; Device Package: Radial, Can, 16mm
footprint CAP AL TH D16 L7.5 H26.5
pins: 1, 2